# Altium schematic symbol library INA236AIDDFR.SchLib: 1 symbol
Pins are listed as number, name and electrical type; pins without a type are passive.

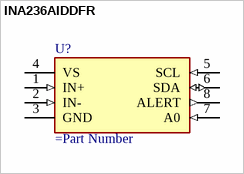
[diagram p0: symbol INA236AIDDFR]

## INA236AIDDFR
designator U?
Copyright: Copyright (C) 2025 Ultra Librarian. All rights reserved.
pins: 1 IN+ (in), 2 IN- (in), 3 GND (power), 4 VS (power), 5 SCL (in), 6 SDA (io), 7 A0 (in), 8 ALERT (out)